# EAGLE library part TPS62230DRYT (library project121)
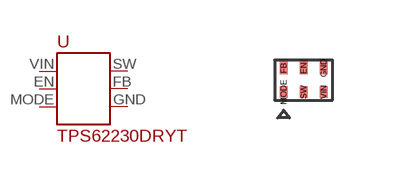
[diagram p5: symbol with the pads of TPS62230DRYT; footprint TPS62230DRYT]

Designator prefix U

## TPS62230DRYT  [TPS62230DRYT]
EN  EN  in
FB  FB  in
GND  GND  pwr
MODE  MODE  in
SW  SW  out
VIN  VIN  pwr

## Footprint TPS62230DRYT (pad centres in mm)
smd 0.2 x 0.3: EN 0.5,0.6; FB 0,0.6; GND 1,0.6; MODE 0,0; SW 0.5,0; VIN 1,0